# EAGLE library part TLC5947 (library Jordi)
A 24-channel high resolution PWM IC
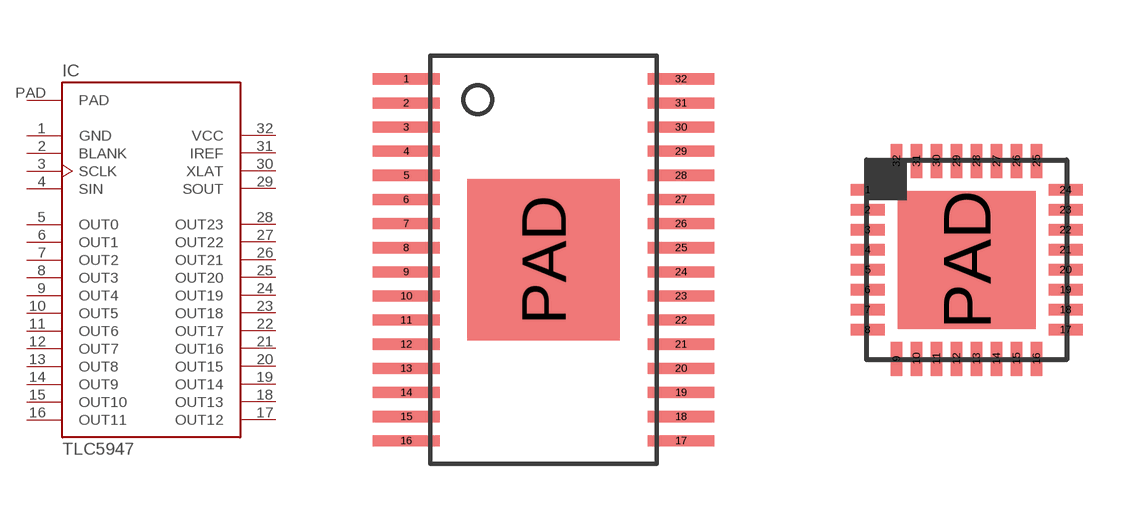
[diagram p0: symbol with the pads of HTSSOP-32; footprints HTSSOP-32, QFN-32]

Designator prefix IC

## TLC5947DAP  [HTSSOP-32]
1  GND  pwr
2  BLANK  in
3  SCLK  in
4  SIN  in
5  OUT0  out
6  OUT1  out
7  OUT2  out
8  OUT3  out
9  OUT4  out
10  OUT5  out
11  OUT6  out
12  OUT7  out
13  OUT8  out
14  OUT9  out
15  OUT10  out
16  OUT11  out
17  OUT12  out
18  OUT13  out
19  OUT14  out
20  OUT15  out
21  OUT16  out
22  OUT17  out
23  OUT18  out
24  OUT19  out
25  OUT20  out
26  OUT21  out
27  OUT22  out
28  OUT23  out
29  SOUT  out
30  XLAT  in
31  IREF  in
32  VCC  pwr
PAD  PAD  pwr

## TLC5947RHB  [QFN-32]
1  OUT0  out
2  OUT1  out
3  OUT2  out
4  OUT3  out
5  OUT4  out
6  OUT5  out
7  OUT6  out
8  OUT7  out
9  OUT8  out
10  OUT9  out
11  OUT10  out
12  OUT11  out
13  OUT12  out
14  OUT13  out
15  OUT14  out
16  OUT15  out
17  OUT16  out
18  OUT17  out
19  OUT18  out
20  OUT19  out
21  OUT20  out
22  OUT21  out
23  OUT22  out
24  OUT23  out
25  SOUT  out
26  XLAT  in
27  IREF  in
28  VCC  pwr
29  GND  pwr
30  BLANK  in
31  SCLK  in
32  SIN  in
PAD  PAD  pwr

## Footprint HTSSOP-32 (pad centres in mm)
smd 1.8 x 0.3: 1 -3.7,4.875; 2 -3.7,4.225; 3 -3.7,3.575; 4 -3.7,2.925; 5 -3.7,2.275; 6 -3.7,1.625; 7 -3.7,0.975; 8 -3.7,0.325; 9 -3.7,-0.325; 10 -3.7,-0.975; 11 -3.7,-1.625; 12 -3.7,-2.275; 13 -3.7,-2.925; 14 -3.7,-3.575; 15 -3.7,-4.225; 16 -3.7,-4.875; 17 3.7,-4.875; 18 3.7,-4.225; 19 3.7,-3.575; 20 3.7,-2.925; 21 3.7,-2.275; 22 3.7,-1.625; 23 3.7,-0.975; 24 3.7,-0.325; 25 3.7,0.325; 26 3.7,0.975; 27 3.7,1.625; 28 3.7,2.275; 29 3.7,2.925; 30 3.7,3.575; 31 3.7,4.225; 32 3.7,4.875
smd 4.11 x 4.36: PAD 0,0

## Footprint QFN-32 (pad centres in mm)
smd 0.85 x 0.28: 1 -2.475,1.75; 2 -2.475,1.25; 3 -2.475,0.75; 4 -2.475,0.25; 5 -2.475,-0.25; 6 -2.475,-0.75; 7 -2.475,-1.25; 8 -2.475,-1.75; 17 2.475,-1.75; 18 2.475,-1.25; 19 2.475,-0.75; 20 2.475,-0.25; 21 2.475,0.25; 22 2.475,0.75; 23 2.475,1.25; 24 2.475,1.75
smd 0.28 x 0.85: 9 -1.75,-2.475; 10 -1.25,-2.475; 11 -0.75,-2.475; 12 -0.25,-2.475; 13 0.25,-2.475; 14 0.75,-2.475; 15 1.25,-2.475; 16 1.75,-2.475; 25 1.75,2.475; 26 1.25,2.475; 27 0.75,2.475; 28 0.25,2.475; 29 -0.25,2.475; 30 -0.75,2.475; 31 -1.25,2.475; 32 -1.75,2.475
smd 3.45 x 3.45: PAD 0,0